# Altium footprint library L12.PcbLib: 3 footprints
Each footprint in its own frame and in the unit in brackets; x right, y up, seen from the top. Pads: shape width x height; smd on the part's side, far side on the other; paste and mask are expansions set on the pad; w line width, h text height; cw(c..) or ccw(c..) is an arc to the next point about the centre after c.
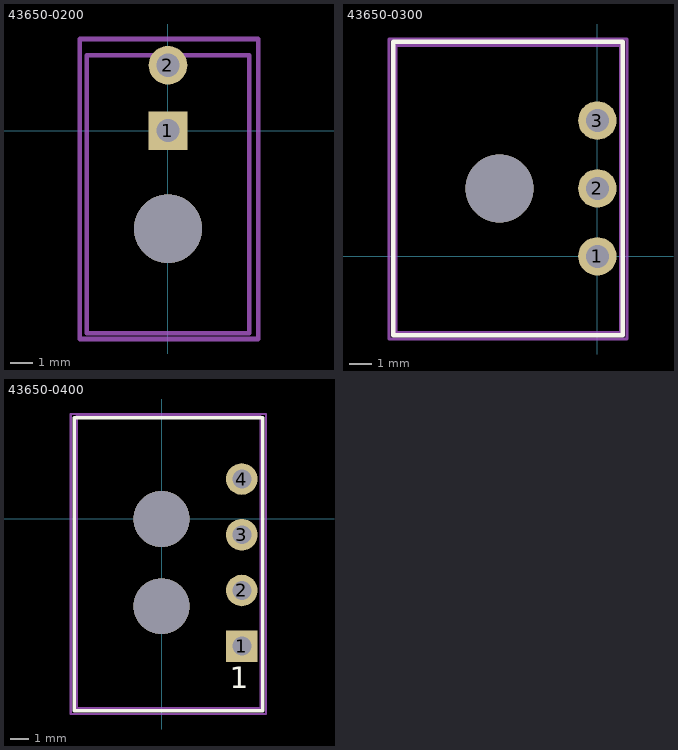
[diagram p0: the footprints below, top view; thin cyan lines are the x and y axes]

## 43650-0200 [mm] "Molex Micro-Fit 3.0 1x2"
pads (2):
  rect 1.7x1.7 hole 1.02: 1(0,0)
  round 1.7 hole 1.02: 2(0,2.88)
via 0,-4.32 diameter 3 hole 3
Assembly Top:
  lines w0.2: -3.575,-8.92 3.575,-8.92 3.575,3.32 -3.575,3.32 -3.575,-8.92
Courtyard Top:
  lines w0.2: -3.892,-9.174 3.982,-9.174 3.982,4.034 -3.892,4.034 -3.892,-9.174
3D body "430450200.stp": height 8.83, standoff -3.12, extent -3.575,-8.92 3.575,3.32

## 43650-0300 [mm] "Molex Micro-Fit 3.0 1x3"
pads (3):
  round 1.7 hole 1.02: 1(0,0) 2(0,3) 3(0,6)
via -4.32,3 diameter 3 hole 3
Top Overlay:
  lines w0.2: -9.025,-3.475 -9.025,9.475 1.125,9.475 1.125,-3.475 -9.025,-3.475
Mechanical 13:
  lines w0.127: -8.89,-3.35 1.01,-3.35 1.01,9.31 -8.89,9.31 -8.89,-3.35
Mechanical 15:
  lines w0.127: -9.2,-3.65 -9.2,9.6 1.3,9.6 1.3,-3.65 -9.2,-3.65
Mechanical 17:
  text "'.Designator'" at -8.075,7.75 h0.7
3D body "436500300.stp": height 5.64, standoff -3.27, extent -8.89,-3.34 1.01,9.31

## 43650-0400 [mm] "Molex Micro-Fit 3.0 1x4"
pads (4):
  rect 1.7x1.7 hole 1.02: 1(4.32,-6.85)
  round 1.7 hole 1.02: 2(4.32,-3.85) 3(4.32,-0.85) 4(4.32,2.15)
via 0,-4.7 diameter 3 hole 3
via 0,0 diameter 3 hole 3
Top Overlay:
  lines w0.2: -4.705,-10.325 5.445,-10.325 5.445,5.45 -4.705,5.45 -4.705,-10.325
  text "1" at 3.683,-9.516 h2
Assembly Top:
  lines w0.127: -4.57,-10.2 -4.57,5.525 5.33,5.525 5.33,-10.2 -4.57,-10.2
Courtyard Top:
  lines w0.127: -4.88,-10.5 -4.88,5.65 5.62,5.65 5.62,-10.5 -4.88,-10.5
3D body "436500400.stp": height 5.64, standoff -3.27, extent -4.58,-10.175 5.32,5.475